# Altium footprint library 3.14-射频天线.PcbLib: 13 footprints
Each footprint in its own frame and in the unit in brackets; x right, y up, seen from the top. Pads: shape width x height; smd on the part's side, far side on the other; paste and mask are expansions set on the pad; w line width, h text height; cw(c..) or ccw(c..) is an arc to the next point about the centre after c.
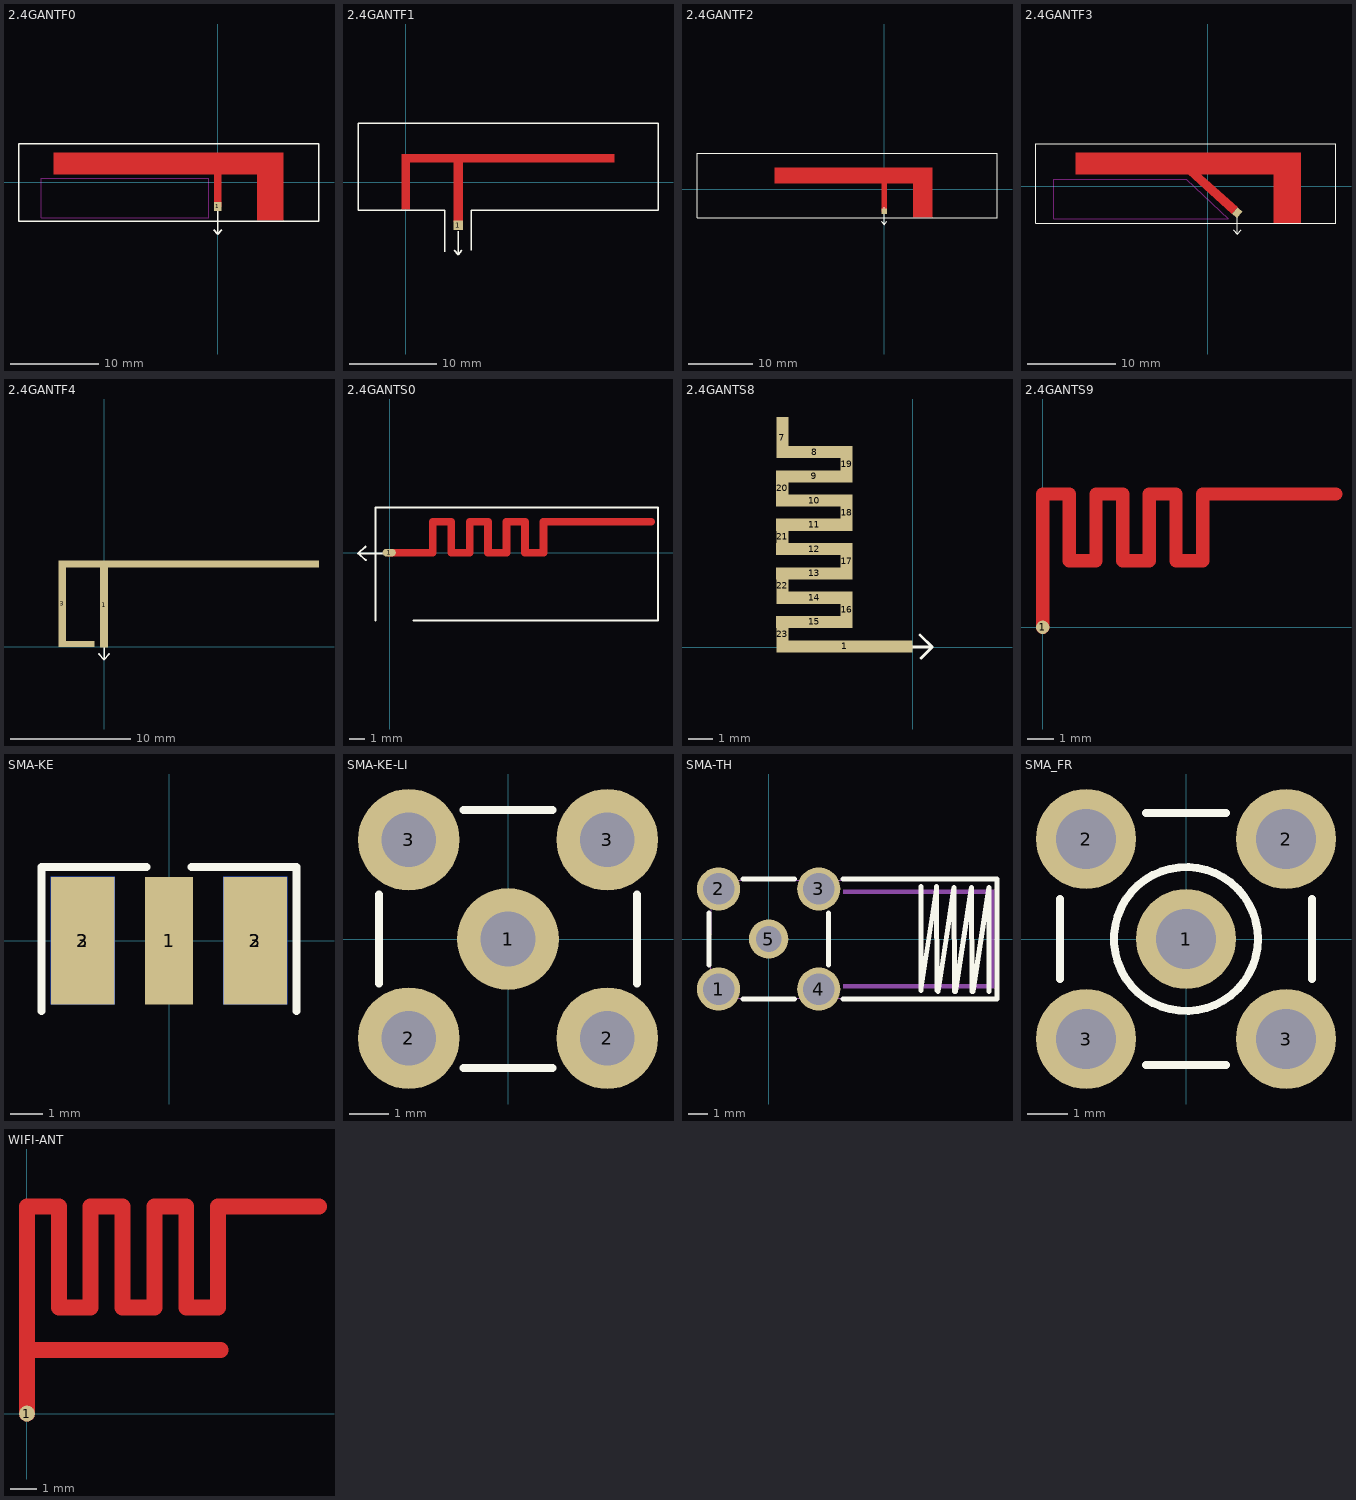
[diagram p0: the footprints below, top view; thin cyan lines are the x and y axes]

## 2.4GANTF0 [mil] "淘宝ID:黄晶宝石"
pads (1):
  rect 33x39.37 smd: 1(0,-107)
Top Layer:
  rectangle: 176.18,-170.28 294.29,133.86
  rectangle: -17,-110 17,133.86
  rectangle: -733.27,35.43 294.29,133.86
Top Overlay:
  lines w6: -18.11,-211.81 -0.39,-231.5 ; -0.39,-125.59 -0.39,-231.5 ; 16.93,-211.42 -0.39,-231.5 ; -886.81,-173.23 451.77,-173.23 451.77,173.23 -886.81,173.23 -886.81,-173.23
Keep-Out Layer:
  lines w5: -787.4,-157.48 -787.4,19.68 -39.37,19.68 -39.37,-157.48 -787.4,-157.48

## 2.4GANTF1 [mil] "淘宝ID:黄晶宝石"
pads (1):
  rect 42x42 smd: 1(237,-195)
Top Layer:
  rectangle: -19.68,88.58 944.88,127.95
  rectangle: 216,-180 258,127.95
  rectangle: -19.68,-125 19.68,127.95
Top Overlay:
  lines w6: 177.17,-316 177.17,-127.95 -216.54,-127.95 -216.54,265.75 1141.73,265.75 1141.73,-127.95 295.28,-127.95 295.28,-309 ; 219.29,-308.27 237.01,-327.95 ; 237.01,-222.05 237.01,-327.95 ; 254.33,-307.87 237.01,-327.95

## 2.4GANTF2 [mil] "淘宝ID:黄晶宝石"
pads (1):
  rect 34x34 smd: 1(0,-134)
Top Layer:
  rectangle: -670.28,35.43 294.29,133.86
  rectangle: -17,-133.86 17,133.86
  rectangle: 176.18,-170.28 294.29,133.86
Top Overlay:
  lines w5: -18.9,-195.28 -1.18,-214.96 ; -1.18,-109.06 -1.18,-214.96 ; 16.14,-194.88 -1.18,-214.96 ; -1142.72,-173.23 -1142.72,220.47 687.99,220.47 687.99,-173.23 -1142.72,-173.23

## 2.4GANTF3 [mil]
pads (1):
  rect 39.37x30 smd rot 48: 1(131,-118)
Top Layer:
  rectangle: 293,-164 415,150
  rectangle: -589.65,51.37 414.29,149.8
  region: 107.75,-123.72 134.21,-94.33 -66.91,86.76 -93.37,57.37
Top Overlay:
  lines w5: 114.17,-194.09 131.89,-213.78 ; 131.89,-107.87 131.89,-213.78 ; 149.21,-193.7 131.89,-213.78 ; -766.81,-165.17 571.77,-165.17 571.77,189.17 -766.81,189.17 -766.81,-165.17
Keep-Out Layer:
  lines w5: -688.07,-145.48 91,-145.48 -97,32 -688.07,31.68 -688.07,-145.48

## 2.4GANTF4 [mm]
pads (4):
  rect 0.65x7 smd: 1(-0.013,3.472)
  rect 3x0.5 smd: 2(-2.325,0.246)
  rect 0.64x7.2 smd: 3(-3.5,3.609)
  rect 21.7x0.6 smd: 4(7.024,6.909)
Top Overlay:
  lines w0.127: -0.47,-0.57 -0.02,-1.07 ; -0.02,-0.06 -0.02,-1.07 ; 0.42,-0.56 -0.02,-1.07

## 2.4GANTS0 [mil]
pads (1):
  oval 34x19.68 smd: 1(-1,0)
Top Layer:
  lines w19.68: 0,0 110.24,0 110.24,78.74 157.48,78.74 157.48,0 204.72,0 204.72,78.74 251.97,78.74 251.97,0 299.21,0 299.21,78.74 346.46,78.74 346.46,0 393.7,0 393.7,78.74 669.29,78.74
Top Overlay:
  lines w5: -61.06,15.75 -80.74,-1.97 ; -60.66,-19.29 -80.74,-1.97 ; -35.92,-173.86 -35.92,115.75 686.61,115.75 686.61,-173.86 61.09,-173.86 ; -12.99,-1.97 -80.74,-1.97

## 2.4GANTS8 [mm] "淘宝ID:黄晶宝石"
pads (18):
  rect 5.58x0.5 smd: 1(-2.788,0.028)
  rect 0.5x1.702 smd: 7(-5.369,8.647)
  rect 3.15x0.5 smd: 8(-4.043,8.046) 9(-4.05,7.045) 10(-4.05,6.046) 11(-4.05,5.048) 12(-4.05,4.041) 13(-4.05,3.041) 14(-4.048,2.038) 15(-4.05,1.036)
  rect 0.5x1.5 smd: 16(-2.725,1.535) 17(-2.725,3.541) 18(-2.725,5.548) 19(-2.72,7.545) 20(-5.375,6.546) 21(-5.375,4.546) 22(-5.373,2.541) 23(-5.375,0.528)
Top Overlay:
  lines w0.127: -0.34,0 0.81,0 ; 0.31,0.5 0.81,0 ; 0.36,-0.45 0.81,0

## 2.4GANTS9 [mm] "淘宝ID:黄晶宝石"
pads (1):
  round 0.5 smd: 1(0,0)
Top Layer:
  lines w0.5: 0,0 0,5 1,5 1,2.5 2,2.5 2,4.96 ; 2,5 3,5 3,2.5 4,2.5 4,4.99 ; 4,5 5,5 5,2.5 6,2.5 6,5 11,5

## SMA-KE [mm] "SMA 偏脚射频天线座     淘宝ID:黄晶宝石"
pads (5):
  rect 1.5x4 smd: 1(0,0)
  rect 2x4 smd: 2(-2.7,0) 2(2.7,0)
  rect 2x4 smd far side: 3(-2.7,0) 3(2.7,0)
Top Overlay:
  lines w0.254: -4,-2.2 -4,2.3 -0.7,2.3 ; 0.7,2.3 4,2.3 4,-2.2
3D body "SMA-KE.STEP": height 3.75, standoff -2.76, extent -3.25,-1.3 3.25,12.2

## SMA-KE-LI [mm] "SMA 立式直插射频天线座     淘宝ID:黄晶宝石"
pads (5):
  round 2.6 hole 1.4 unplated: 1(0,0) 2(-2.54,-2.54) 2(2.54,-2.54) 3(-2.54,2.54) 3(2.54,2.54)
Top Overlay:
  lines w0.203: -3.302,-1.143 -3.302,1.143 ; -1.143,-3.302 1.143,-3.302 ; -1.143,3.302 1.143,3.302 ; 3.302,-1.143 3.302,1.143
3D body "SMA-KE-LI.STEP": height 10.35, standoff -3.16, extent -3.25,-3.25 3.25,3.25

## SMA-TH [mm]
pads (5):
  round 2.2 hole 1.6: 1(-2.55,-2.55) 2(-2.55,2.55) 3(2.55,2.55)
  round 2.2 hole 1.6 copper offset 0,0: 4(2.55,-2.55)
  round 2 hole 1.3: 5(0,0)
Top Overlay:
  lines w0.254: -3.048,-1.316 -3.048,1.316 ; -1.316,-3.048 1.316,-3.048 ; -1.316,3.048 1.316,3.048 ; 3.048,-1.316 3.048,1.316 ; 3.784,-3.048 11.63,-3.048 ; 3.784,3.048 11.6,3.048 ; 7.747,2.667 7.747,-2.633 8.56,2.667 8.566,-2.633 ; 8.636,-2.667 9.449,2.633 9.455,-2.667 ; 9.525,-2.667 10.338,2.633 10.344,-2.667 ; 10.414,-2.667 11.227,2.633 11.233,-2.667 ; 11.63,-3 11.63,-2.62 11.63,2.68 11.63,3.048
Mechanical 6:
  region: 11.5,2.3 11.5,-2.3 11.3,-2.3 11.3,2.3
  region: 3.8,-2.5 11.5,-2.5 11.5,-2.3 3.8,-2.3
  region: 3.8,2.5 11.5,2.5 11.5,2.3 3.8,2.3
Mechanical 15:
  region: 2.1,3 3,3 3,2.1 2.1,2.1
  region: 2.1,-2.1 3,-2.1 3,-3 2.1,-3
  region: -3,-2.1 -2.1,-2.1 -2.1,-3 -3,-3
  region: -3,3 -2.1,3 -2.1,2.1 -3,2.1
  region: 0.45,0 0.45,-0.089 0.381,-0.255 0.255,-0.381 0.089,-0.45 -0.09,-0.45 -0.255,-0.381 -0.382,-0.255 -0.45,-0.089 -0.45,0 -0.45,0.09 -0.382,0.255 -0.255,0.382 -0.09,0.45 0.089,0.45 0.255,0.382 0.381,0.255 0.45,0.09 0.45,0
  region: -2.94,-3.017 -2.94,-3.042 -2.975,-3.077 -3.025,-3.077 -3.06,-3.042 -3.06,-3.017 -3.06,-2.992 -3.025,-2.957 -2.975,-2.957 -2.94,-2.992 -2.94,-3.017
  lines w0.051: -2.941,-3.017 -2.941,-2.538 -2.932,2.996 11.591,2.996 11.591,-3.017 -2.941,-3.017
3D body "SMA-TH_BWSMA-KWE-Z001~SMA-TH_5P-L14.5-W6.0-H9.6_BWSMA-KWE-Z001~ipFG.STEP": height 9.67, standoff -3.5, extent -2.935,-3.175 11.565,3.175

## SMA_FR [mm] "SMA 90度射频天线座     淘宝ID:黄晶宝石"
pads (5):
  round 2.5 hole 1.5: 1(0,0) 2(-2.5,2.5) 2(2.5,2.5) 3(-2.5,-2.5) 3(2.5,-2.5)
Top Overlay:
  circle w0.2: c0,0 r1.8
  lines w0.2: -3.15,-1 -3.15,1 ; -1,-3.15 1,-3.15 ; -1,3.15 1,3.15 ; 3.15,-1 3.15,1
Mechanical 1:
  circle w0.025: c0,0 r1.8
  circle w0.025: c0,0 r1.05
  circle w0.025: c0,0 r0.2
3D body "Samtec-SMA-J-P-H-RA-TH1.STEP": height 10.26, standoff -3.84, extent -3.5,-3.5 3.5,11.6

## WIFI-ANT [mm] "淘宝ID:黄晶宝石"
pads (1):
  round 0.6 smd: 1(0,0)
Top Layer:
  lines w0.6: 0,0 0,7.8 1.2,7.8 1.2,4 2.4,4 2.4,7.8 3.6,7.8 3.6,4 4.8,4 4.8,7.8 6,7.8 6,4 7.2,4 7.2,7.8 11,7.8 ; 0,2.4 7.3,2.4
Top Solder:
  lines w0.8: 0,0 0,7.8 1.2,7.8 1.2,4 2.4,4 2.4,7.8 3.6,7.8 3.6,4 4.8,4 4.8,7.8 6,7.8 6,4 7.2,4 7.2,7.8 11,7.8 ; 0,2.4 7.3,2.4